# EAGLE library part ESP32_ADAPTER (library Nextion handheld controller)
ESP32_adapter
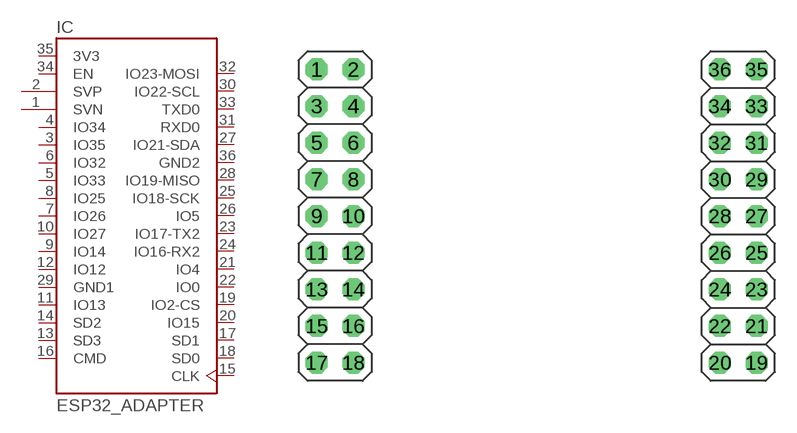
[diagram p20: symbol with the pads of ESP32_38P_ADAPTER_BOARD; footprint ESP32_38P_ADAPTER_BOARD]

Designator prefix IC

## ESP32_ADAPTER  [ESP32_38P_ADAPTER_BOARD]
1  SVN
2  SVP
3  IO35
4  IO34
5  IO33
6  IO32
7  IO26
8  IO25
9  IO14
10  IO27
11  IO13
12  IO12
13  SD3
14  SD2
15  CLK  in
16  CMD
17  SD1
18  SD0
19  IO2-CS
20  IO15
21  IO4
22  IO0
23  IO17-TX2
24  IO16-RX2
25  IO18-SCK
26  IO5
27  IO21-SDA
28  IO19-MISO
29  GND1  pwr
30  IO22-SCL
31  RXD0  in
32  IO23-MOSI
33  TXD0  out
34  EN  in
35  3V3  pwr
36  GND2  pwr

## Footprint ESP32_38P_ADAPTER_BOARD (pad centres in mm)
PIN HEADER
drill 1.016 octagon: 1 -12.7,8.89; 2 -10.16,8.89; 3 -12.7,6.35; 4 -10.16,6.35; 5 -12.7,3.81; 6 -10.16,3.81; 7 -12.7,1.27; 8 -10.16,1.27; 9 -12.7,-1.27; 10 -10.16,-1.27; 11 -12.7,-3.81; 12 -10.16,-3.81; 13 -12.7,-6.35; 14 -10.16,-6.35; 15 -12.7,-8.89; 16 -10.16,-8.89; 17 -12.7,-11.43; 18 -10.16,-11.43; 19 17.805,-11.43; 20 15.265,-11.43; 21 17.805,-8.89; 22 15.265,-8.89; 23 17.805,-6.35; 24 15.265,-6.35; 25 17.805,-3.81; 26 15.265,-3.81; 27 17.805,-1.27; 28 15.265,-1.27; 29 17.805,1.27; 30 15.265,1.27; 31 17.805,3.81; 32 15.265,3.81; 33 17.805,6.35; 34 15.265,6.35; 35 17.805,8.89; 36 15.265,8.89